# Altium schematic symbol library kmilo17pet-TI_MSP430.SchLib: 1463 symbols (part 41 of 130)
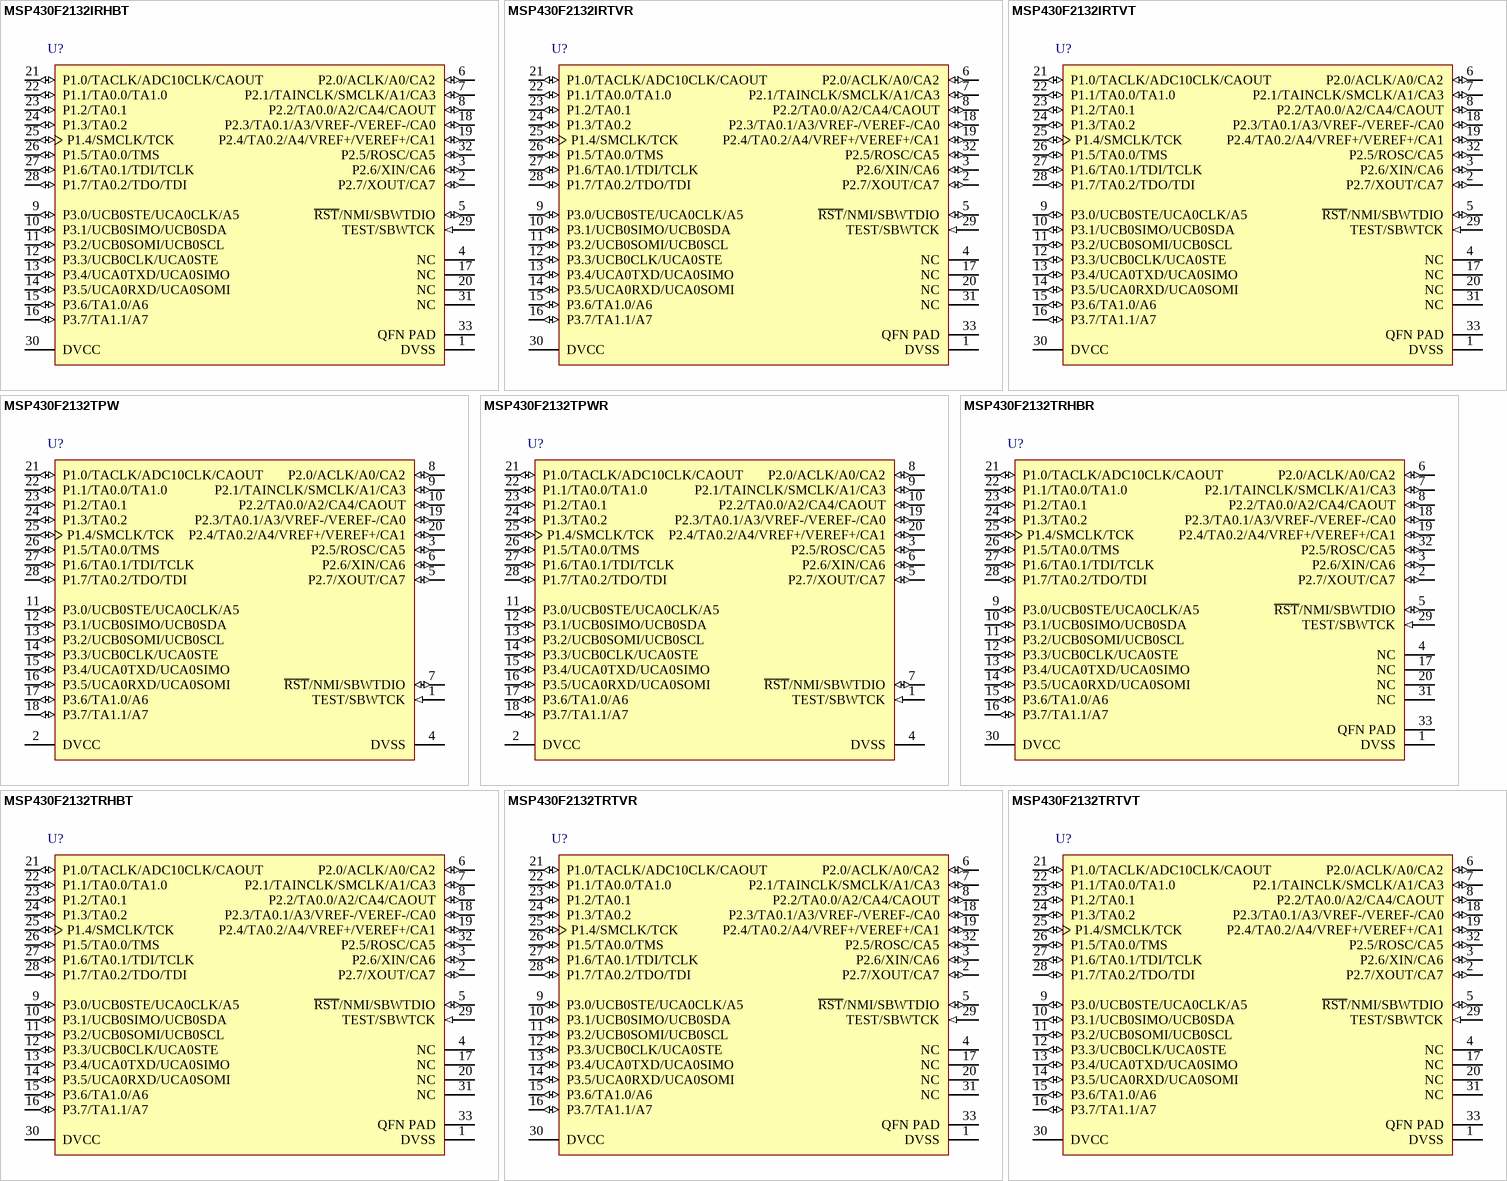
[diagram p257: symbols MSP430F2132IRHBT to MSP430F2132TRTVT]

## MSP430F2132TRHBR
designator U?
16 MHz Mixed Signal Microcontroller with 8 KB Flash, 512 B SRAM and 24 GPIOs, -40 to 105 degC, 32-pin QFN (RHB), Green (RoHS & no Sb/Br); Manufacturer: Texas Instruments; PartNumber: MSP430F2132TRHBR; ADC: 10-bit SAR; ADC Channels: 8; Brown Out Reset: Yes; Frequency(MHz): 16; GPIO: 24; SRAM(B): 512; SubFamily: 2 Series, Extended Temp; Timers - 16-bit: 2; USCI_A (UART/LIN/IrDA/SPI): 1; DatasheetVersion: SLAS578J; PackageVersion: 4204326/D; PackageReference: RHB32-3450X3450TP; PackageDescription: 32-Pin Plastic Flat Pack, Body 5 x 5 mm, Pitch 0.5 mm; Supplier 1: Digi-Key; Supplier Part Number 1: 296-23369-2-ND; Supplier 2: Digi-Key; Supplier Part Number 2: 296-23369-1-ND; Supplier 3: Digi-Key; Supplier Part Number 3: 296-23369-6-ND; Supplier 4: Mouser; Supplier Part Number 4: 595-MSP430F2132TPWR; Comparators: Yes; Eco-Plan: Green (RoHS & no Sb/Br); Flash(KB): 8; Temp Sensor: Yes; USCI_B (I2C & SPI): 1; Watchdog: Yes; Mounting Technology: Surface Mount; Code_JEDEC: MO-220; ComponentLink1Description: Manufacturer URL; ComponentLink1URL: http://www.ti.com/; ComponentLink2Description: Datasheet; ComponentLink2URL: http://www.ti.com/general/docs/lit/getliterature.tsp?genericPartNumber=MSP430F2132&fileType=pdf; ComponentLink3Description: Package Specification; ComponentLink3URL: http://www.ti.com/lit/ml/mpqf130c/mpqf130c.pdf
footprint TI-RHB32-3450X3450TP_N (QFN, 32-Leads, Body 5x5mm, Pitch 0.5mm, Thermal Pad 3.45x3.45mm, IPC Medium Density)
pins: 1 DVSS (power) "Digital supply voltage", 2 P2.7/XOUT/CA7 (io), 3 P2.6/XIN/CA6 (io), 4 NC "Not connected internally. Connection to VSS is recommended.", 5 ~{RST}/NMI/SBWTDIO (io), 6 P2.0/ACLK/A0/CA2 (io), 7 P2.1/TAINCLK/SMCLK/A1/CA3 (io), 8 P2.2/TA0.0/A2/CA4/CAOUT (io), 9 P3.0/UCB0STE/UCA0CLK/A5 (io), 10 P3.1/UCB0SIMO/UCB0SDA (io), 11 P3.2/UCB0SOMI/UCB0SCL (io), 12 P3.3/UCB0CLK/UCA0STE (io), 13 P3.4/UCA0TXD/UCA0SIMO (io), 14 P3.5/UCA0RXD/UCA0SOMI (io), 15 P3.6/TA1.0/A6 (io), 16 P3.7/TA1.1/A7 (io), 17 NC "Not connected internally. Connection to VSS is recommended.", 18 P2.3/TA0.1/A3/VREF-/VEREF-/CA0 (io), 19 P2.4/TA0.2/A4/VREF+/VEREF+/CA1 (io), 20 NC "Not connected internally. Connection to VSS is recommended.", 21 P1.0/TACLK/ADC10CLK/CAOUT (io), 22 P1.1/TA0.0/TA1.0 (io), 23 P1.2/TA0.1 (io), 24 P1.3/TA0.2 (io), 25 P1.4/SMCLK/TCK (io), 26 P1.5/TA0.0/TMS (io), 27 P1.6/TA0.1/TDI/TCLK (io), 28 P1.7/TA0.2/TDO/TDI (io), 29 TEST/SBWTCK (in), 30 DVCC (power) "Digital supply voltage", 31 NC "Not connected internally. Connection to VSS is recommended.", 32 P2.5/ROSC/CA5 (io), 33 QFN PAD (power) "QFN package.pad (RHB, RTV packages). Connection to DVSS is recommended."

## MSP430F2132TRHBT
designator U?
16 MHz Mixed Signal Microcontroller with 8 KB Flash, 512 B SRAM and 24 GPIOs, -40 to 105 degC, 32-pin QFN (RHB), Green (RoHS & no Sb/Br); Manufacturer: Texas Instruments; PartNumber: MSP430F2132TRHBT; ADC: 10-bit SAR; ADC Channels: 8; Brown Out Reset: Yes; Frequency(MHz): 16; GPIO: 24; SRAM(B): 512; SubFamily: 2 Series, Extended Temp; Timers - 16-bit: 2; USCI_A (UART/LIN/IrDA/SPI): 1; DatasheetVersion: SLAS578J; PackageVersion: 4204326/D; PackageReference: RHB32-3450X3450TP; PackageDescription: 32-Pin Plastic Flat Pack, Body 5 x 5 mm, Pitch 0.5 mm; Supplier 1: Digi-Key; Supplier Part Number 1: 296-23370-2-ND; Supplier 2: Digi-Key; Supplier Part Number 2: 296-23370-1-ND; Supplier 3: Digi-Key; Supplier Part Number 3: 296-23370-6-ND; Supplier 4: Newark; Supplier Part Number 4: 96M3659; Supplier 5: Mouser; Supplier Part Number 5: 595-MSP430F2132TRHBR; Comparators: Yes; Eco-Plan: Green (RoHS & no Sb/Br); Flash(KB): 8; Temp Sensor: Yes; USCI_B (I2C & SPI): 1; Watchdog: Yes; Mounting Technology: Surface Mount; Code_JEDEC: MO-220; ComponentLink1Description: Manufacturer URL; ComponentLink1URL: http://www.ti.com/; ComponentLink2Description: Datasheet; ComponentLink2URL: http://www.ti.com/general/docs/lit/getliterature.tsp?genericPartNumber=MSP430F2132&fileType=pdf; ComponentLink3Description: Package Specification; ComponentLink3URL: http://www.ti.com/lit/ml/mpqf130c/mpqf130c.pdf
footprint TI-RHB32-3450X3450TP_N (QFN, 32-Leads, Body 5x5mm, Pitch 0.5mm, Thermal Pad 3.45x3.45mm, IPC Medium Density)
pins: 1 DVSS (power) "Digital supply voltage", 2 P2.7/XOUT/CA7 (io), 3 P2.6/XIN/CA6 (io), 4 NC "Not connected internally. Connection to VSS is recommended.", 5 ~{RST}/NMI/SBWTDIO (io), 6 P2.0/ACLK/A0/CA2 (io), 7 P2.1/TAINCLK/SMCLK/A1/CA3 (io), 8 P2.2/TA0.0/A2/CA4/CAOUT (io), 9 P3.0/UCB0STE/UCA0CLK/A5 (io), 10 P3.1/UCB0SIMO/UCB0SDA (io), 11 P3.2/UCB0SOMI/UCB0SCL (io), 12 P3.3/UCB0CLK/UCA0STE (io), 13 P3.4/UCA0TXD/UCA0SIMO (io), 14 P3.5/UCA0RXD/UCA0SOMI (io), 15 P3.6/TA1.0/A6 (io), 16 P3.7/TA1.1/A7 (io), 17 NC "Not connected internally. Connection to VSS is recommended.", 18 P2.3/TA0.1/A3/VREF-/VEREF-/CA0 (io), 19 P2.4/TA0.2/A4/VREF+/VEREF+/CA1 (io), 20 NC "Not connected internally. Connection to VSS is recommended.", 21 P1.0/TACLK/ADC10CLK/CAOUT (io), 22 P1.1/TA0.0/TA1.0 (io), 23 P1.2/TA0.1 (io), 24 P1.3/TA0.2 (io), 25 P1.4/SMCLK/TCK (io), 26 P1.5/TA0.0/TMS (io), 27 P1.6/TA0.1/TDI/TCLK (io), 28 P1.7/TA0.2/TDO/TDI (io), 29 TEST/SBWTCK (in), 30 DVCC (power) "Digital supply voltage", 31 NC "Not connected internally. Connection to VSS is recommended.", 32 P2.5/ROSC/CA5 (io), 33 QFN PAD (power) "QFN package.pad (RHB, RTV packages). Connection to DVSS is recommended."

## MSP430F2132TRTVR
designator U?
16 MHz Mixed Signal Microcontroller with 8 KB Flash, 512 B SRAM and 24 GPIOs, -40 to 105 degC, 32-pin QFN (RTV), Green (RoHS & no Sb/Br); Manufacturer: Texas Instruments; PartNumber: MSP430F2132TRTVR; ADC: 10-bit SAR; ADC Channels: 8; Brown Out Reset: Yes; Frequency(MHz): 16; GPIO: 24; SRAM(B): 512; SubFamily: 2 Series, Extended Temp; Timers - 16-bit: 2; USCI_A (UART/LIN/IrDA/SPI): 1; DatasheetVersion: SLAS578J; PackageReference: RTV32-3450X3450TP; PackageDescription: 32-Pin Plastic Flat Pack, Body 5.00 x 5.00 mm, Pitch 0.50 mm; Supplier 1: Digi-Key; Supplier Part Number 1: 296-26203-2-ND; Supplier 2: Digi-Key; Supplier Part Number 2: 296-26203-1-ND; Supplier 3: Digi-Key; Supplier Part Number 3: 296-26203-6-ND; Supplier 4: Farnell; Supplier Part Number 4: 1649418; Supplier 5: Newark; Supplier Part Number 5: 96M3660; Supplier 6: Mouser; Supplier Part Number 6: 595-MSP430F2132TRHBT; Comparators: Yes; Eco-Plan: Green (RoHS & no Sb/Br); Flash(KB): 8; Temp Sensor: Yes; USCI_B (I2C & SPI): 1; Watchdog: Yes; Mounting Technology: Surface Mount; Code_JEDEC: MO-220; ComponentLink1Description: Manufacturer URL; ComponentLink1URL: http://www.ti.com/; ComponentLink2Description: Datasheet; ComponentLink2URL: http://www.ti.com/general/docs/lit/getliterature.tsp?genericPartNumber=MSP430F2132&fileType=pdf; ComponentLink3Description: Package Specification; ComponentLink3URL: http://www.ti.com/litv/pdf/mpqf166b
footprint TI-RTV32-3450X3450TP_N (QFN, 32-Leads, Body 5x5mm, Pitch 0.5mm, Thermal Pad 3.45x3.45mm, IPC Medium Density)
pins: 1 DVSS (power) "Digital supply voltage", 2 P2.7/XOUT/CA7 (io), 3 P2.6/XIN/CA6 (io), 4 NC "Not connected internally. Connection to VSS is recommended.", 5 ~{RST}/NMI/SBWTDIO (io), 6 P2.0/ACLK/A0/CA2 (io), 7 P2.1/TAINCLK/SMCLK/A1/CA3 (io), 8 P2.2/TA0.0/A2/CA4/CAOUT (io), 9 P3.0/UCB0STE/UCA0CLK/A5 (io), 10 P3.1/UCB0SIMO/UCB0SDA (io), 11 P3.2/UCB0SOMI/UCB0SCL (io), 12 P3.3/UCB0CLK/UCA0STE (io), 13 P3.4/UCA0TXD/UCA0SIMO (io), 14 P3.5/UCA0RXD/UCA0SOMI (io), 15 P3.6/TA1.0/A6 (io), 16 P3.7/TA1.1/A7 (io), 17 NC "Not connected internally. Connection to VSS is recommended.", 18 P2.3/TA0.1/A3/VREF-/VEREF-/CA0 (io), 19 P2.4/TA0.2/A4/VREF+/VEREF+/CA1 (io), 20 NC "Not connected internally. Connection to VSS is recommended.", 21 P1.0/TACLK/ADC10CLK/CAOUT (io), 22 P1.1/TA0.0/TA1.0 (io), 23 P1.2/TA0.1 (io), 24 P1.3/TA0.2 (io), 25 P1.4/SMCLK/TCK (io), 26 P1.5/TA0.0/TMS (io), 27 P1.6/TA0.1/TDI/TCLK (io), 28 P1.7/TA0.2/TDO/TDI (io), 29 TEST/SBWTCK (in), 30 DVCC (power) "Digital supply voltage", 31 NC "Not connected internally. Connection to VSS is recommended.", 32 P2.5/ROSC/CA5 (io), 33 QFN PAD (power) "QFN package.pad (RHB, RTV packages). Connection to DVSS is recommended."

## MSP430F2132TRTVT
designator U?
16 MHz Mixed Signal Microcontroller with 8 KB Flash, 512 B SRAM and 24 GPIOs, -40 to 105 degC, 32-pin QFN (RTV), Green (RoHS & no Sb/Br); Manufacturer: Texas Instruments; PartNumber: MSP430F2132TRTVT; ADC: 10-bit SAR; ADC Channels: 8; Brown Out Reset: Yes; Frequency(MHz): 16; GPIO: 24; SRAM(B): 512; SubFamily: 2 Series, Extended Temp; Timers - 16-bit: 2; USCI_A (UART/LIN/IrDA/SPI): 1; DatasheetVersion: SLAS578J; PackageReference: RTV32-3450X3450TP; PackageDescription: 32-Pin Plastic Flat Pack, Body 5.00 x 5.00 mm, Pitch 0.50 mm; Supplier 1: Digi-Key; Supplier Part Number 1: MSP430F2132TRTVR-ND; Supplier 2: Mouser; Supplier Part Number 2: 595-MSP430F2132TRTVR; Comparators: Yes; Eco-Plan: Green (RoHS & no Sb/Br); Flash(KB): 8; Temp Sensor: Yes; USCI_B (I2C & SPI): 1; Watchdog: Yes; Mounting Technology: Surface Mount; Code_JEDEC: MO-220; ComponentLink1Description: Manufacturer URL; ComponentLink1URL: http://www.ti.com/; ComponentLink2Description: Datasheet; ComponentLink2URL: http://www.ti.com/general/docs/lit/getliterature.tsp?genericPartNumber=MSP430F2132&fileType=pdf; ComponentLink3Description: Package Specification; ComponentLink3URL: http://www.ti.com/litv/pdf/mpqf166b
footprint TI-RTV32-3450X3450TP_N (QFN, 32-Leads, Body 5x5mm, Pitch 0.5mm, Thermal Pad 3.45x3.45mm, IPC Medium Density)
pins: 1 DVSS (power) "Digital supply voltage", 2 P2.7/XOUT/CA7 (io), 3 P2.6/XIN/CA6 (io), 4 NC "Not connected internally. Connection to VSS is recommended.", 5 ~{RST}/NMI/SBWTDIO (io), 6 P2.0/ACLK/A0/CA2 (io), 7 P2.1/TAINCLK/SMCLK/A1/CA3 (io), 8 P2.2/TA0.0/A2/CA4/CAOUT (io), 9 P3.0/UCB0STE/UCA0CLK/A5 (io), 10 P3.1/UCB0SIMO/UCB0SDA (io), 11 P3.2/UCB0SOMI/UCB0SCL (io), 12 P3.3/UCB0CLK/UCA0STE (io), 13 P3.4/UCA0TXD/UCA0SIMO (io), 14 P3.5/UCA0RXD/UCA0SOMI (io), 15 P3.6/TA1.0/A6 (io), 16 P3.7/TA1.1/A7 (io), 17 NC "Not connected internally. Connection to VSS is recommended.", 18 P2.3/TA0.1/A3/VREF-/VEREF-/CA0 (io), 19 P2.4/TA0.2/A4/VREF+/VEREF+/CA1 (io), 20 NC "Not connected internally. Connection to VSS is recommended.", 21 P1.0/TACLK/ADC10CLK/CAOUT (io), 22 P1.1/TA0.0/TA1.0 (io), 23 P1.2/TA0.1 (io), 24 P1.3/TA0.2 (io), 25 P1.4/SMCLK/TCK (io), 26 P1.5/TA0.0/TMS (io), 27 P1.6/TA0.1/TDI/TCLK (io), 28 P1.7/TA0.2/TDO/TDI (io), 29 TEST/SBWTCK (in), 30 DVCC (power) "Digital supply voltage", 31 NC "Not connected internally. Connection to VSS is recommended.", 32 P2.5/ROSC/CA5 (io), 33 QFN PAD (power) "QFN package.pad (RHB, RTV packages). Connection to DVSS is recommended."

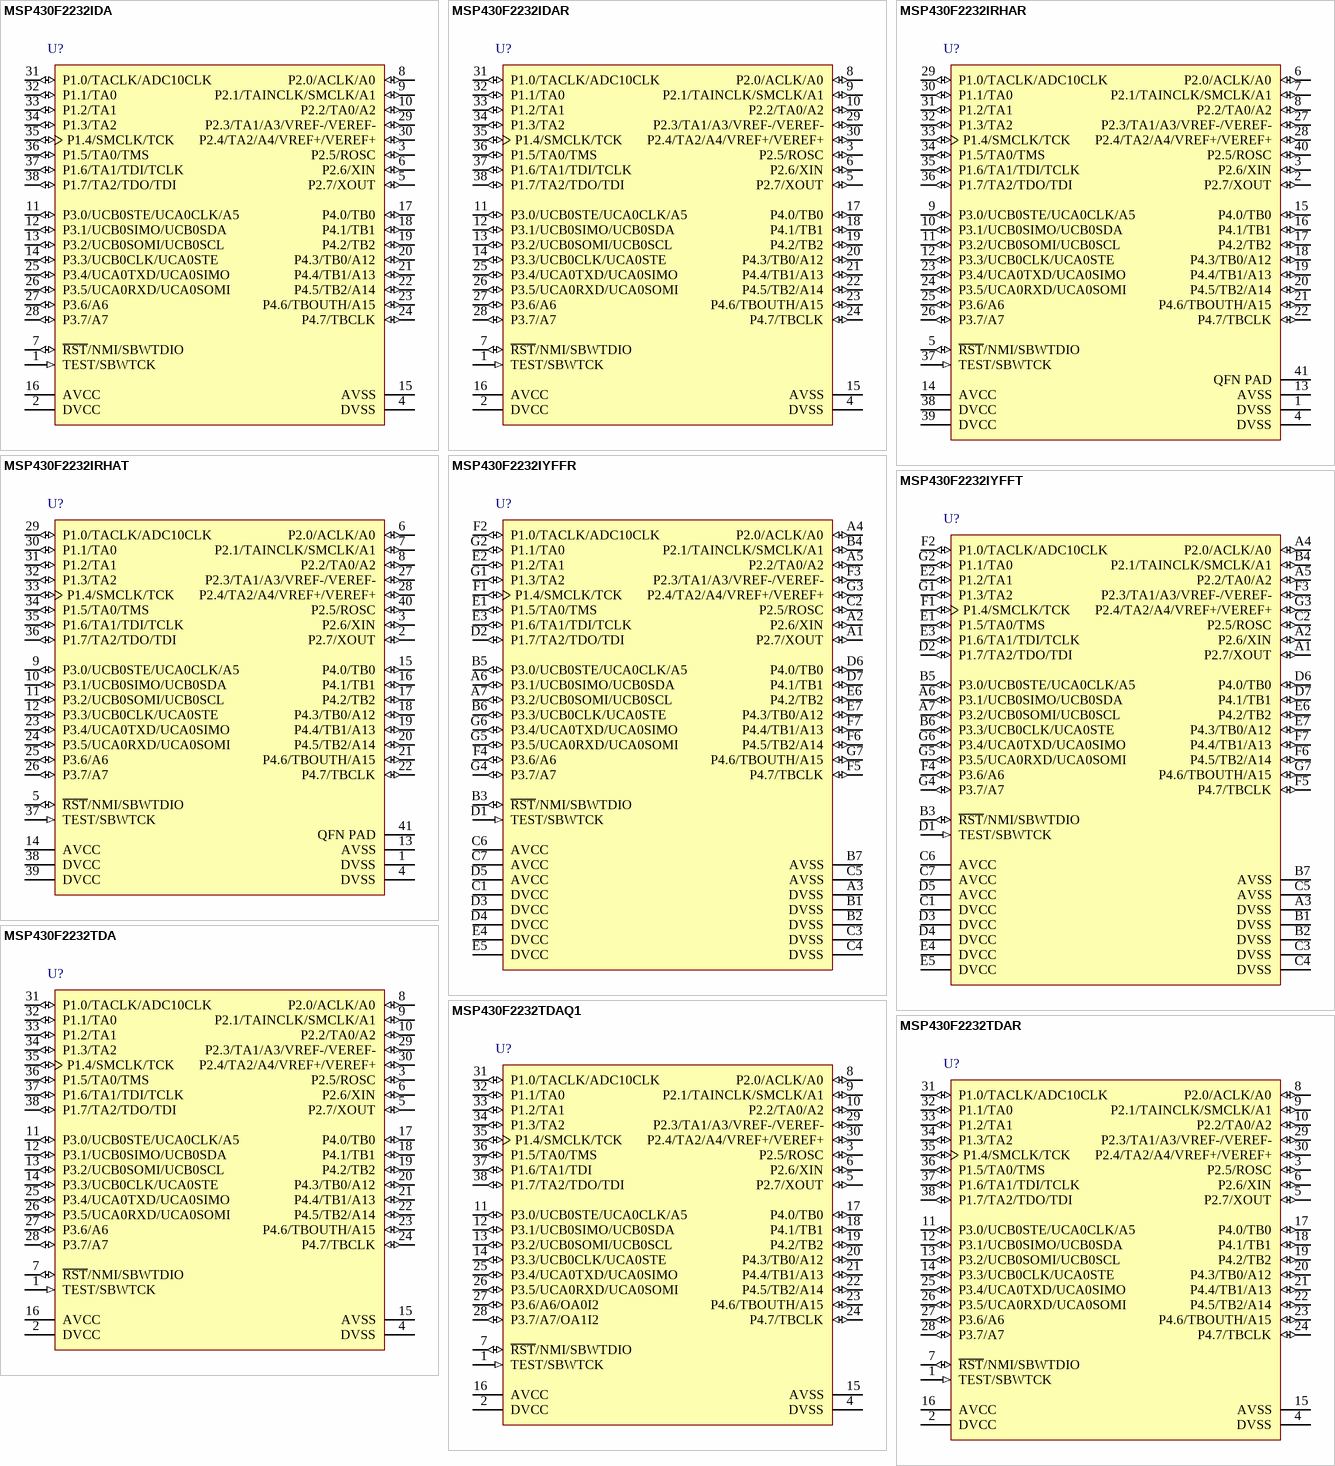
[diagram p59: symbols MSP430F2232IDA to MSP430F2232TDAR]

## MSP430F2232IDA
designator U?
16 MHz Mixed Signal Microcontroller with 8 KB Flash, 512 B SRAM and 32 GPIOs, -40 to 85 degC, 38-pin SOP (DA), Green (RoHS & no Sb/Br); Manufacturer: Texas Instruments; PartNumber: MSP430F2232IDA; ADC: 10-bit SAR; ADC Channels: 12; Brown Out Reset: Yes; Flash(KB): 8; Frequency(MHz): 16; GPIO: 32; SRAM(B): 512; SubFamily: 2 Series, Extended Temp; Timers - 16-bit: 2; USCI_A (UART/LIN/IrDA/SPI): 1; DatasheetVersion: SLAS504G; PackageVersion: 4040066/F; PackageReference: DA38; PackageDescription: 38-Pin Plastic Small-Outline Package, Body 6.10 x 12.50 mm, Pitch 0.65 mm; Supplier 1: Digi-Key; Supplier Part Number 1: MSP430F2132TRTVT-ND; Supplier 2: Mouser; Supplier Part Number 2: 595-MSP430F2132TRTVT; Eco-Plan: Green (RoHS & no Sb/Br); USCI_B (I2C & SPI): 1; Watchdog: Yes; Mounting Technology: Surface Mount; Code_JEDEC: MO-153; ComponentLink1Description: Manufacturer URL; ComponentLink1URL: http://www.ti.com/; ComponentLink2Description: Datasheet; ComponentLink2URL: http://www.ti.com/general/docs/lit/getliterature.tsp?genericPartNumber=MSP430F2232&fileType=pdf; ComponentLink3Description: Package Specification; ComponentLink3URL: http://www.ti.com/lit/ml/mtss002e/mtss002e.pdf
footprint TI-DA38_N (SOP, 38-Leads, Body 12.5x6.1mm, Pitch 0.65mm, IPC Medium Density)
pins: 1 TEST/SBWTCK (in), 2 DVCC (power) "Digital supply voltage", 3 P2.5/ROSC (io), 4 DVSS (power) "Digital ground reference", 5 P2.7/XOUT (io), 6 P2.6/XIN (io), 7 ~{RST}/NMI/SBWTDIO (io), 8 P2.0/ACLK/A0 (io), 9 P2.1/TAINCLK/SMCLK/A1 (io), 10 P2.2/TA0/A2 (io), 11 P3.0/UCB0STE/UCA0CLK/A5 (io), 12 P3.1/UCB0SIMO/UCB0SDA (io), 13 P3.2/UCB0SOMI/UCB0SCL (io), 14 P3.3/UCB0CLK/UCA0STE (io), 15 AVSS (power) "Analog ground reference", 16 AVCC (power) "Analog supply voltage", 17 P4.0/TB0 (io), 18 P4.1/TB1 (io), 19 P4.2/TB2 (io), 20 P4.3/TB0/A12 (io), 21 P4.4/TB1/A13 (io), 22 P4.5/TB2/A14 (io), 23 P4.6/TBOUTH/A15 (io), 24 P4.7/TBCLK (io), 25 P3.4/UCA0TXD/UCA0SIMO (io), 26 P3.5/UCA0RXD/UCA0SOMI (io), 27 P3.6/A6 (io), 28 P3.7/A7 (io), 29 P2.3/TA1/A3/VREF-/VEREF- (io), 30 P2.4/TA2/A4/VREF+/VEREF+ (io), 31 P1.0/TACLK/ADC10CLK (io), 32 P1.1/TA0 (io), 33 P1.2/TA1 (io), 34 P1.3/TA2 (io), 35 P1.4/SMCLK/TCK (io), 36 P1.5/TA0/TMS (io), 37 P1.6/TA1/TDI/TCLK (io), 38 P1.7/TA2/TDO/TDI (io)

## MSP430F2232IDAR
designator U?
16 MHz Mixed Signal Microcontroller with 8 KB Flash, 512 B SRAM and 32 GPIOs, -40 to 85 degC, 38-pin SOP (DA), Green (RoHS & no Sb/Br); Manufacturer: Texas Instruments; PartNumber: MSP430F2232IDAR; ADC: 10-bit SAR; ADC Channels: 12; Brown Out Reset: Yes; Flash(KB): 8; Frequency(MHz): 16; GPIO: 32; SRAM(B): 512; SubFamily: 2 Series, Extended Temp; Timers - 16-bit: 2; USCI_A (UART/LIN/IrDA/SPI): 1; DatasheetVersion: SLAS504G; PackageVersion: 4040066/F; PackageReference: DA38; PackageDescription: 38-Pin Plastic Small-Outline Package, Body 6.10 x 12.50 mm, Pitch 0.65 mm; Supplier 1: Digi-Key; Supplier Part Number 1: 296-26204-5-ND; Supplier 2: Farnell; Supplier Part Number 2: 1610178; Supplier 3: Newark; Supplier Part Number 3: 28M6312; Supplier 4: Mouser; Supplier Part Number 4: 595-MSP430F2232IDA; Eco-Plan: Green (RoHS & no Sb/Br); USCI_B (I2C & SPI): 1; Watchdog: Yes; Mounting Technology: Surface Mount; Code_JEDEC: MO-153; ComponentLink1Description: Manufacturer URL; ComponentLink1URL: http://www.ti.com/; ComponentLink2Description: Datasheet; ComponentLink2URL: http://www.ti.com/general/docs/lit/getliterature.tsp?genericPartNumber=MSP430F2232&fileType=pdf; ComponentLink3Description: Package Specification; ComponentLink3URL: http://www.ti.com/lit/ml/mtss002e/mtss002e.pdf
footprint TI-DA38_N (SOP, 38-Leads, Body 12.5x6.1mm, Pitch 0.65mm, IPC Medium Density)
pins: 1 TEST/SBWTCK (in), 2 DVCC (power) "Digital supply voltage", 3 P2.5/ROSC (io), 4 DVSS (power) "Digital ground reference", 5 P2.7/XOUT (io), 6 P2.6/XIN (io), 7 ~{RST}/NMI/SBWTDIO (io), 8 P2.0/ACLK/A0 (io), 9 P2.1/TAINCLK/SMCLK/A1 (io), 10 P2.2/TA0/A2 (io), 11 P3.0/UCB0STE/UCA0CLK/A5 (io), 12 P3.1/UCB0SIMO/UCB0SDA (io), 13 P3.2/UCB0SOMI/UCB0SCL (io), 14 P3.3/UCB0CLK/UCA0STE (io), 15 AVSS (power) "Analog ground reference", 16 AVCC (power) "Analog supply voltage", 17 P4.0/TB0 (io), 18 P4.1/TB1 (io), 19 P4.2/TB2 (io), 20 P4.3/TB0/A12 (io), 21 P4.4/TB1/A13 (io), 22 P4.5/TB2/A14 (io), 23 P4.6/TBOUTH/A15 (io), 24 P4.7/TBCLK (io), 25 P3.4/UCA0TXD/UCA0SIMO (io), 26 P3.5/UCA0RXD/UCA0SOMI (io), 27 P3.6/A6 (io), 28 P3.7/A7 (io), 29 P2.3/TA1/A3/VREF-/VEREF- (io), 30 P2.4/TA2/A4/VREF+/VEREF+ (io), 31 P1.0/TACLK/ADC10CLK (io), 32 P1.1/TA0 (io), 33 P1.2/TA1 (io), 34 P1.3/TA2 (io), 35 P1.4/SMCLK/TCK (io), 36 P1.5/TA0/TMS (io), 37 P1.6/TA1/TDI/TCLK (io), 38 P1.7/TA2/TDO/TDI (io)

## MSP430F2232IRHAR
designator U?
16 MHz Mixed Signal Microcontroller with 8 KB Flash, 512 B SRAM and 32 GPIOs, -40 to 85 degC, 40-pin QFN (RHA), Green (RoHS & no Sb/Br); Manufacturer: Texas Instruments; PartNumber: MSP430F2232IRHAR; ADC: 10-bit SAR; ADC Channels: 12; Brown Out Reset: Yes; Flash(KB): 8; Frequency(MHz): 16; GPIO: 32; SRAM(B): 512; SubFamily: 2 Series, Extended Temp; Timers - 16-bit: 2; USCI_A (UART/LIN/IrDA/SPI): 1; DatasheetVersion: SLAS504G; PackageVersion: 4204276/E; PackageReference: RHA40-4150X4150TP; PackageDescription: 40-Pin Plastic Flat Pack, Body 6 x 6 mm, Pitch 0.5 mm; Supplier 1: Digi-Key; Supplier Part Number 1: 296-21444-2-ND; Supplier 2: Digi-Key; Supplier Part Number 2: 296-21444-1-ND; Supplier 3: Digi-Key; Supplier Part Number 3: 296-21444-6-ND; Supplier 4: Newark; Supplier Part Number 4: 28M6313; Supplier 5: Mouser; Supplier Part Number 5: 595-MSP430F2232IDAR; Eco-Plan: Green (RoHS & no Sb/Br); USCI_B (I2C & SPI): 1; Watchdog: Yes; Mounting Technology: Surface Mount; Code_JEDEC: MO-220; ComponentLink1Description: Manufacturer URL; ComponentLink1URL: http://www.ti.com/; ComponentLink2Description: Datasheet; ComponentLink2URL: http://www.ti.com/general/docs/lit/getliterature.tsp?genericPartNumber=MSP430F2232&fileType=pdf; ComponentLink3Description: Package Specification; ComponentLink3URL: http://www.ti.com/litv/pdf/mpqf135c
footprint TI-RHA40-4150X4150TP_N (QFN, 40-Leads, Body 6x6mm, Pitch 0.5mm, Thermal Pad 4.15x4.15mm, IPC Medium Density)
pins: 1 DVSS (power) "Digital ground reference", 2 P2.7/XOUT (io), 3 P2.6/XIN (io), 4 DVSS (power) "Digital ground reference", 5 ~{RST}/NMI/SBWTDIO (io), 6 P2.0/ACLK/A0 (io), 7 P2.1/TAINCLK/SMCLK/A1 (io), 8 P2.2/TA0/A2 (io), 9 P3.0/UCB0STE/UCA0CLK/A5 (io), 10 P3.1/UCB0SIMO/UCB0SDA (io), 11 P3.2/UCB0SOMI/UCB0SCL (io), 12 P3.3/UCB0CLK/UCA0STE (io), 13 AVSS (power) "Analog ground reference", 14 AVCC (power) "Analog supply voltage", 15 P4.0/TB0 (io), 16 P4.1/TB1 (io), 17 P4.2/TB2 (io), 18 P4.3/TB0/A12 (io), 19 P4.4/TB1/A13 (io), 20 P4.5/TB2/A14 (io), 21 P4.6/TBOUTH/A15 (io), 22 P4.7/TBCLK (io), 23 P3.4/UCA0TXD/UCA0SIMO (io), 24 P3.5/UCA0RXD/UCA0SOMI (io), 25 P3.6/A6 (io), 26 P3.7/A7 (io), 27 P2.3/TA1/A3/VREF-/VEREF- (io), 28 P2.4/TA2/A4/VREF+/VEREF+ (io), 29 P1.0/TACLK/ADC10CLK (io), 30 P1.1/TA0 (io), 31 P1.2/TA1 (io), 32 P1.3/TA2 (io), 33 P1.4/SMCLK/TCK (io), 34 P1.5/TA0/TMS (io), 35 P1.6/TA1/TDI/TCLK (io), 36 P1.7/TA2/TDO/TDI (io), 37 TEST/SBWTCK (in), 38 DVCC (power) "Digital supply voltage", 39 DVCC (power) "Digital supply voltage", 40 P2.5/ROSC (io), 41 QFN PAD (power) "QFN package pad; connection to DVSS recommended"

## MSP430F2232IRHAT
designator U?
16 MHz Mixed Signal Microcontroller with 8 KB Flash, 512 B SRAM and 32 GPIOs, -40 to 85 degC, 40-pin QFN (RHA), Green (RoHS & no Sb/Br); Manufacturer: Texas Instruments; PartNumber: MSP430F2232IRHAT; ADC: 10-bit SAR; ADC Channels: 12; Brown Out Reset: Yes; Flash(KB): 8; Frequency(MHz): 16; GPIO: 32; SRAM(B): 512; SubFamily: 2 Series, Extended Temp; Timers - 16-bit: 2; USCI_A (UART/LIN/IrDA/SPI): 1; DatasheetVersion: SLAS504G; PackageVersion: 4204276/E; PackageReference: RHA40-4150X4150TP; PackageDescription: 40-Pin Plastic Flat Pack, Body 6 x 6 mm, Pitch 0.5 mm; Supplier 1: Digi-Key; Supplier Part Number 1: 296-26205-2-ND; Supplier 2: Digi-Key; Supplier Part Number 2: 296-26205-1-ND; Supplier 3: Digi-Key; Supplier Part Number 3: 296-26205-6-ND; Supplier 4: Newark; Supplier Part Number 4: 28M6314; Supplier 5: Mouser; Supplier Part Number 5: 595-MSP430F2232IRHAR; Eco-Plan: Green (RoHS & no Sb/Br); USCI_B (I2C & SPI): 1; Watchdog: Yes; Mounting Technology: Surface Mount; Code_JEDEC: MO-220; ComponentLink1Description: Manufacturer URL; ComponentLink1URL: http://www.ti.com/; ComponentLink2Description: Datasheet; ComponentLink2URL: http://www.ti.com/general/docs/lit/getliterature.tsp?genericPartNumber=MSP430F2232&fileType=pdf; ComponentLink3Description: Package Specification; ComponentLink3URL: http://www.ti.com/litv/pdf/mpqf135c
footprint TI-RHA40-4150X4150TP_N (QFN, 40-Leads, Body 6x6mm, Pitch 0.5mm, Thermal Pad 4.15x4.15mm, IPC Medium Density)
pins: 1 DVSS (power) "Digital ground reference", 2 P2.7/XOUT (io), 3 P2.6/XIN (io), 4 DVSS (power) "Digital ground reference", 5 ~{RST}/NMI/SBWTDIO (io), 6 P2.0/ACLK/A0 (io), 7 P2.1/TAINCLK/SMCLK/A1 (io), 8 P2.2/TA0/A2 (io), 9 P3.0/UCB0STE/UCA0CLK/A5 (io), 10 P3.1/UCB0SIMO/UCB0SDA (io), 11 P3.2/UCB0SOMI/UCB0SCL (io), 12 P3.3/UCB0CLK/UCA0STE (io), 13 AVSS (power) "Analog ground reference", 14 AVCC (power) "Analog supply voltage", 15 P4.0/TB0 (io), 16 P4.1/TB1 (io), 17 P4.2/TB2 (io), 18 P4.3/TB0/A12 (io), 19 P4.4/TB1/A13 (io), 20 P4.5/TB2/A14 (io), 21 P4.6/TBOUTH/A15 (io), 22 P4.7/TBCLK (io), 23 P3.4/UCA0TXD/UCA0SIMO (io), 24 P3.5/UCA0RXD/UCA0SOMI (io), 25 P3.6/A6 (io), 26 P3.7/A7 (io), 27 P2.3/TA1/A3/VREF-/VEREF- (io), 28 P2.4/TA2/A4/VREF+/VEREF+ (io), 29 P1.0/TACLK/ADC10CLK (io), 30 P1.1/TA0 (io), 31 P1.2/TA1 (io), 32 P1.3/TA2 (io), 33 P1.4/SMCLK/TCK (io), 34 P1.5/TA0/TMS (io), 35 P1.6/TA1/TDI/TCLK (io), 36 P1.7/TA2/TDO/TDI (io), 37 TEST/SBWTCK (in), 38 DVCC (power) "Digital supply voltage", 39 DVCC (power) "Digital supply voltage", 40 P2.5/ROSC (io), 41 QFN PAD (power) "QFN package pad; connection to DVSS recommended"

## MSP430F2232IYFFR
designator U?
16 MHz Mixed Signal Microcontroller with 8 KB Flash, 512 B SRAM and 32 GPIOs, -40 to 85 degC, 49-pin BGA (YFF), Green (RoHS & no Sb/Br); Manufacturer: Texas Instruments; PartNumber: MSP430F2232IYFFR; ADC: 10-bit SAR; ADC Channels: 12; Brown Out Reset: Yes; Flash(KB): 8; Frequency(MHz): 16; GPIO: 32; SRAM(B): 512; SubFamily: 2 Series, Extended Temp; Timers - 16-bit: 2; USCI_A (UART/LIN/IrDA/SPI): 1; DatasheetVersion: SLAS504G; PackageVersion: 4207625-16/AJ; PackageReference: YFF49; PackageDescription: 49-Ball Silicon Grid Array, Body 3.33 x 3.49 mm, Pitch 0.4 mm; Supplier 1: Digi-Key; Supplier Part Number 1: 296-21445-2-ND; Supplier 2: Digi-Key; Supplier Part Number 2: 296-21445-1-ND; Supplier 3: Digi-Key; Supplier Part Number 3: 296-21445-6-ND; Supplier 4: Farnell; Supplier Part Number 4: 1537187; Supplier 5: Newark; Supplier Part Number 5: 28M6315; Supplier 6: Mouser; Supplier Part Number 6: 595-MSP430F2232IRHAT; Eco-Plan: Green (RoHS & no Sb/Br); USCI_B (I2C & SPI): 1; Watchdog: Yes; Mounting Technology: Surface Mount; ComponentLink1Description: Manufacturer URL; ComponentLink1URL: http://www.ti.com/; ComponentLink2Description: Datasheet; ComponentLink2URL: http://www.ti.com/general/docs/lit/getliterature.tsp?genericPartNumber=MSP430F2232&fileType=pdf; ComponentLink3Description: Package Specification; ComponentLink3URL: http://www.ti.com/lit/ds/symlink/msp430f2232.pdf
footprint TI-YFF49-3330X3490DE (BGA, 49-Balls, Body 3.49x3.33mm, Pitch 0.4mm)
pins: A1 P2.7/XOUT (io), A2 P2.6/XIN (io), A3 DVSS (power) "Digital ground reference", A4 P2.0/ACLK/A0 (io), A5 P2.2/TA0/A2 (io), A6 P3.1/UCB0SIMO/UCB0SDA (io), A7 P3.2/UCB0SOMI/UCB0SCL (io), B1 DVSS (power) "Digital ground reference", B2 DVSS (power) "Digital ground reference", B3 ~{RST}/NMI/SBWTDIO (io), B4 P2.1/TAINCLK/SMCLK/A1 (io), B5 P3.0/UCB0STE/UCA0CLK/A5 (io), B6 P3.3/UCB0CLK/UCA0STE (io), B7 AVSS (power) "Analog ground reference", C1 DVCC (power) "Digital supply voltage", C2 P2.5/ROSC (io), C3 DVSS (power) "Digital ground reference", C4 DVSS (power) "Digital ground reference", C5 AVSS (power) "Analog ground reference", C6 AVCC (power) "Analog supply voltage", C7 AVCC (power) "Analog supply voltage", D1 TEST/SBWTCK (in), D2 P1.7/TA2/TDO/TDI (io), D3 DVCC (power) "Digital supply voltage", D4 DVCC (power) "Digital supply voltage", D5 AVCC (power) "Analog supply voltage", D6 P4.0/TB0 (io), D7 P4.1/TB1 (io), E1 P1.5/TA0/TMS (io), E2 P1.2/TA1 (io), E3 P1.6/TA1/TDI/TCLK (io), E4 DVCC (power) "Digital supply voltage", E5 DVCC (power) "Digital supply voltage", E6 P4.2/TB2 (io), E7 P4.3/TB0/A12 (io), F1 P1.4/SMCLK/TCK (io), F2 P1.0/TACLK/ADC10CLK (io), F3 P2.3/TA1/A3/VREF-/VEREF- (io), F4 P3.6/A6 (io), F5 P4.7/TBCLK (io), F6 P4.5/TB2/A14 (io), F7 P4.4/TB1/A13 (io), G1 P1.3/TA2 (io), G2 P1.1/TA0 (io), G3 P2.4/TA2/A4/VREF+/VEREF+ (io), G4 P3.7/A7 (io), G5 P3.5/UCA0RXD/UCA0SOMI (io), G6 P3.4/UCA0TXD/UCA0SIMO (io), G7 P4.6/TBOUTH/A15 (io)

## MSP430F2232IYFFT
designator U?
16 MHz Mixed Signal Microcontroller with 8 KB Flash, 512 B SRAM and 32 GPIOs, -40 to 85 degC, 49-pin BGA (YFF), Green (RoHS & no Sb/Br); Manufacturer: Texas Instruments; PartNumber: MSP430F2232IYFFT; ADC: 10-bit SAR; ADC Channels: 12; Brown Out Reset: Yes; Flash(KB): 8; Frequency(MHz): 16; GPIO: 32; SRAM(B): 512; SubFamily: 2 Series, Extended Temp; Timers - 16-bit: 2; USCI_A (UART/LIN/IrDA/SPI): 1; DatasheetVersion: SLAS504G; PackageVersion: 4207625-16/AJ; PackageReference: YFF49; PackageDescription: 49-Ball Silicon Grid Array, Body 3.33 x 3.49 mm, Pitch 0.4 mm; Supplier 1: Digi-Key; Supplier Part Number 1: 296-28979-2-ND; Supplier 2: Digi-Key; Supplier Part Number 2: 296-28979-1-ND; Supplier 3: Digi-Key; Supplier Part Number 3: 296-28979-6-ND; Supplier 4: Newark; Supplier Part Number 4: 94T1367; Supplier 5: Mouser; Supplier Part Number 5: 595-MSP430F2232IYFFR; Eco-Plan: Green (RoHS & no Sb/Br); USCI_B (I2C & SPI): 1; Watchdog: Yes; Mounting Technology: Surface Mount; ComponentLink1Description: Manufacturer URL; ComponentLink1URL: http://www.ti.com/; ComponentLink2Description: Datasheet; ComponentLink2URL: http://www.ti.com/general/docs/lit/getliterature.tsp?genericPartNumber=MSP430F2232&fileType=pdf; ComponentLink3Description: Package Specification; ComponentLink3URL: http://www.ti.com/lit/ds/symlink/msp430f2232.pdf
footprint TI-YFF49-3330X3490DE (BGA, 49-Balls, Body 3.49x3.33mm, Pitch 0.4mm)
pins: A1 P2.7/XOUT (io), A2 P2.6/XIN (io), A3 DVSS (power) "Digital ground reference", A4 P2.0/ACLK/A0 (io), A5 P2.2/TA0/A2 (io), A6 P3.1/UCB0SIMO/UCB0SDA (io), A7 P3.2/UCB0SOMI/UCB0SCL (io), B1 DVSS (power) "Digital ground reference", B2 DVSS (power) "Digital ground reference", B3 ~{RST}/NMI/SBWTDIO (io), B4 P2.1/TAINCLK/SMCLK/A1 (io), B5 P3.0/UCB0STE/UCA0CLK/A5 (io), B6 P3.3/UCB0CLK/UCA0STE (io), B7 AVSS (power) "Analog ground reference", C1 DVCC (power) "Digital supply voltage", C2 P2.5/ROSC (io), C3 DVSS (power) "Digital ground reference", C4 DVSS (power) "Digital ground reference", C5 AVSS (power) "Analog ground reference", C6 AVCC (power) "Analog supply voltage", C7 AVCC (power) "Analog supply voltage", D1 TEST/SBWTCK (in), D2 P1.7/TA2/TDO/TDI (io), D3 DVCC (power) "Digital supply voltage", D4 DVCC (power) "Digital supply voltage", D5 AVCC (power) "Analog supply voltage", D6 P4.0/TB0 (io), D7 P4.1/TB1 (io), E1 P1.5/TA0/TMS (io), E2 P1.2/TA1 (io), E3 P1.6/TA1/TDI/TCLK (io), E4 DVCC (power) "Digital supply voltage", E5 DVCC (power) "Digital supply voltage", E6 P4.2/TB2 (io), E7 P4.3/TB0/A12 (io), F1 P1.4/SMCLK/TCK (io), F2 P1.0/TACLK/ADC10CLK (io), F3 P2.3/TA1/A3/VREF-/VEREF- (io), F4 P3.6/A6 (io), F5 P4.7/TBCLK (io), F6 P4.5/TB2/A14 (io), F7 P4.4/TB1/A13 (io), G1 P1.3/TA2 (io), G2 P1.1/TA0 (io), G3 P2.4/TA2/A4/VREF+/VEREF+ (io), G4 P3.7/A7 (io), G5 P3.5/UCA0RXD/UCA0SOMI (io), G6 P3.4/UCA0TXD/UCA0SIMO (io), G7 P4.6/TBOUTH/A15 (io)

## MSP430F2232TDA
designator U?
16 MHz Mixed Signal Microcontroller with 8 KB Flash, 512 B SRAM and 32 GPIOs, -40 to 105 degC, 38-pin SOP (DA), Green (RoHS & no Sb/Br); Manufacturer: Texas Instruments; PartNumber: MSP430F2232TDA; ADC: 10-bit SAR; ADC Channels: 12; Brown Out Reset: Yes; Flash(KB): 8; Frequency(MHz): 16; GPIO: 32; SRAM(B): 512; SubFamily: 2 Series, Extended Temp; Timers - 16-bit: 2; USCI_A (UART/LIN/IrDA/SPI): 1; DatasheetVersion: SLAS504G; PackageVersion: 4040066/F; PackageReference: DA38; PackageDescription: 38-Pin Plastic Small-Outline Package, Body 6.10 x 12.50 mm, Pitch 0.65 mm; Supplier 1: Newark; Supplier Part Number 1: 47W6736; Supplier 2: Mouser; Supplier Part Number 2: 595-MSP430F2232IYFFT; Eco-Plan: Green (RoHS & no Sb/Br); USCI_B (I2C & SPI): 1; Watchdog: Yes; Mounting Technology: Surface Mount; Code_JEDEC: MO-153; ComponentLink1Description: Manufacturer URL; ComponentLink1URL: http://www.ti.com/; ComponentLink2Description: Datasheet; ComponentLink2URL: http://www.ti.com/general/docs/lit/getliterature.tsp?genericPartNumber=MSP430F2232&fileType=pdf; ComponentLink3Description: Package Specification; ComponentLink3URL: http://www.ti.com/lit/ml/mtss002e/mtss002e.pdf
footprint TI-DA38_N (SOP, 38-Leads, Body 12.5x6.1mm, Pitch 0.65mm, IPC Medium Density)
pins: 1 TEST/SBWTCK (in), 2 DVCC (power) "Digital supply voltage", 3 P2.5/ROSC (io), 4 DVSS (power) "Digital ground reference", 5 P2.7/XOUT (io), 6 P2.6/XIN (io), 7 ~{RST}/NMI/SBWTDIO (io), 8 P2.0/ACLK/A0 (io), 9 P2.1/TAINCLK/SMCLK/A1 (io), 10 P2.2/TA0/A2 (io), 11 P3.0/UCB0STE/UCA0CLK/A5 (io), 12 P3.1/UCB0SIMO/UCB0SDA (io), 13 P3.2/UCB0SOMI/UCB0SCL (io), 14 P3.3/UCB0CLK/UCA0STE (io), 15 AVSS (power) "Analog ground reference", 16 AVCC (power) "Analog supply voltage", 17 P4.0/TB0 (io), 18 P4.1/TB1 (io), 19 P4.2/TB2 (io), 20 P4.3/TB0/A12 (io), 21 P4.4/TB1/A13 (io), 22 P4.5/TB2/A14 (io), 23 P4.6/TBOUTH/A15 (io), 24 P4.7/TBCLK (io), 25 P3.4/UCA0TXD/UCA0SIMO (io), 26 P3.5/UCA0RXD/UCA0SOMI (io), 27 P3.6/A6 (io), 28 P3.7/A7 (io), 29 P2.3/TA1/A3/VREF-/VEREF- (io), 30 P2.4/TA2/A4/VREF+/VEREF+ (io), 31 P1.0/TACLK/ADC10CLK (io), 32 P1.1/TA0 (io), 33 P1.2/TA1 (io), 34 P1.3/TA2 (io), 35 P1.4/SMCLK/TCK (io), 36 P1.5/TA0/TMS (io), 37 P1.6/TA1/TDI/TCLK (io), 38 P1.7/TA2/TDO/TDI (io)

## MSP430F2232TDAQ1
designator U?
16 MHz Mixed Signal Microcontroller with 8 KB Flash, 512 B SRAM and 32 GPIOs, -40 to 105 degC, 38-pin SOP (DA), Green (RoHS & no Sb/Br); Manufacturer: Texas Instruments; PartNumber: MSP430F2232TDAQ1; ADC: 10-bit SAR; ADC Channels: 12; Brown Out Reset: Yes; Eco-Plan: TBD; Flash(KB): 8; Frequency(MHz): 16; GPIO: 32; SRAM(B): 512; SubFamily: Automotive, Extended Temp; Timers - 16-bit: 2; USCI_A (UART/LIN/IrDA/SPI): 1; DatasheetVersion: SLAS770; PackageVersion: 4040066/F; PackageReference: DA38; PackageDescription: 38-Pin Plastic Small-Outline Package, Body 6.10 x 12.50 mm, Pitch 0.65 mm; Supplier 1: Digi-Key; Supplier Part Number 1: 296-29605-5-ND; Supplier 2: Farnell; Supplier Part Number 2: 1753288; Supplier 3: Newark; Supplier Part Number 3: 93R5546; Supplier 4: Newark; Supplier Part Number 4: 28M6316; Supplier 5: Mouser; Supplier Part Number 5: 595-MSP430F2232TDA; Temp Sensor: Yes; USCI_B (I2C & SPI): 1; Watchdog: Yes; Mounting Technology: Surface Mount; Code_JEDEC: MO-153; ComponentLink1Description: Manufacturer URL; ComponentLink1URL: http://www.ti.com/; ComponentLink2Description: Datasheet; ComponentLink2URL: http://www.ti.com/general/docs/lit/getliterature.tsp?genericPartNumber=MSP430F2232-Q1&fileType=pdf; ComponentLink3Description: Package Specification; ComponentLink3URL: http://www.ti.com/lit/ml/mtss002e/mtss002e.pdf
footprint TI-DA38_N (SOP, 38-Leads, Body 12.5x6.1mm, Pitch 0.65mm, IPC Medium Density)
pins: 1 TEST/SBWTCK (in), 2 DVCC (power) "Digital supply voltage", 3 P2.5/ROSC (io), 4 DVSS (power) "Digital ground reference", 5 P2.7/XOUT (io), 6 P2.6/XIN (io), 7 ~{RST}/NMI/SBWTDIO (io), 8 P2.0/ACLK/A0 (io), 9 P2.1/TAINCLK/SMCLK/A1 (io), 10 P2.2/TA0/A2 (io), 11 P3.0/UCB0STE/UCA0CLK/A5 (io), 12 P3.1/UCB0SIMO/UCB0SDA (io), 13 P3.2/UCB0SOMI/UCB0SCL (io), 14 P3.3/UCB0CLK/UCA0STE (io), 15 AVSS (power) "Analog supply voltage", 16 AVCC (power) "Analog supply voltage", 17 P4.0/TB0 (io), 18 P4.1/TB1 (io), 19 P4.2/TB2 (io), 20 P4.3/TB0/A12 (io), 21 P4.4/TB1/A13 (io), 22 P4.5/TB2/A14 (io), 23 P4.6/TBOUTH/A15 (io), 24 P4.7/TBCLK (io), 25 P3.4/UCA0TXD/UCA0SIMO (io), 26 P3.5/UCA0RXD/UCA0SOMI (io), 27 P3.6/A6/OA0I2 (io), 28 P3.7/A7/OA1I2 (io), 29 P2.3/TA1/A3/VREF-/VEREF- (io), 30 P2.4/TA2/A4/VREF+/VEREF+ (io), 31 P1.0/TACLK/ADC10CLK (io), 32 P1.1/TA0 (io), 33 P1.2/TA1 (io), 34 P1.3/TA2 (io), 35 P1.4/SMCLK/TCK (io), 36 P1.5/TA0/TMS (io), 37 P1.6/TA1/TDI (io), 38 P1.7/TA2/TDO/TDI (io)

## MSP430F2232TDAR
designator U?
16 MHz Mixed Signal Microcontroller with 8 KB Flash, 512 B SRAM and 32 GPIOs, -40 to 105 degC, 38-pin SOP (DA), Green (RoHS & no Sb/Br); Manufacturer: Texas Instruments; PartNumber: MSP430F2232TDAR; ADC: 10-bit SAR; ADC Channels: 12; Brown Out Reset: Yes; Flash(KB): 8; Frequency(MHz): 16; GPIO: 32; SRAM(B): 512; SubFamily: 2 Series, Extended Temp; Timers - 16-bit: 2; USCI_A (UART/LIN/IrDA/SPI): 1; DatasheetVersion: SLAS504G; PackageVersion: 4040066/F; PackageReference: DA38; PackageDescription: 38-Pin Plastic Small-Outline Package, Body 6.10 x 12.50 mm, Pitch 0.65 mm; Supplier 1: Mouser; Supplier Part Number 1: N/A; Eco-Plan: Green (RoHS & no Sb/Br); USCI_B (I2C & SPI): 1; Watchdog: Yes; Mounting Technology: Surface Mount; Code_JEDEC: MO-153; ComponentLink1Description: Manufacturer URL; ComponentLink1URL: http://www.ti.com/; ComponentLink2Description: Datasheet; ComponentLink2URL: http://www.ti.com/general/docs/lit/getliterature.tsp?genericPartNumber=MSP430F2232&fileType=pdf; ComponentLink3Description: Package Specification; ComponentLink3URL: http://www.ti.com/lit/ml/mtss002e/mtss002e.pdf
footprint TI-DA38_N (SOP, 38-Leads, Body 12.5x6.1mm, Pitch 0.65mm, IPC Medium Density)
pins: 1 TEST/SBWTCK (in), 2 DVCC (power) "Digital supply voltage", 3 P2.5/ROSC (io), 4 DVSS (power) "Digital ground reference", 5 P2.7/XOUT (io), 6 P2.6/XIN (io), 7 ~{RST}/NMI/SBWTDIO (io), 8 P2.0/ACLK/A0 (io), 9 P2.1/TAINCLK/SMCLK/A1 (io), 10 P2.2/TA0/A2 (io), 11 P3.0/UCB0STE/UCA0CLK/A5 (io), 12 P3.1/UCB0SIMO/UCB0SDA (io), 13 P3.2/UCB0SOMI/UCB0SCL (io), 14 P3.3/UCB0CLK/UCA0STE (io), 15 AVSS (power) "Analog ground reference", 16 AVCC (power) "Analog supply voltage", 17 P4.0/TB0 (io), 18 P4.1/TB1 (io), 19 P4.2/TB2 (io), 20 P4.3/TB0/A12 (io), 21 P4.4/TB1/A13 (io), 22 P4.5/TB2/A14 (io), 23 P4.6/TBOUTH/A15 (io), 24 P4.7/TBCLK (io), 25 P3.4/UCA0TXD/UCA0SIMO (io), 26 P3.5/UCA0RXD/UCA0SOMI (io), 27 P3.6/A6 (io), 28 P3.7/A7 (io), 29 P2.3/TA1/A3/VREF-/VEREF- (io), 30 P2.4/TA2/A4/VREF+/VEREF+ (io), 31 P1.0/TACLK/ADC10CLK (io), 32 P1.1/TA0 (io), 33 P1.2/TA1 (io), 34 P1.3/TA2 (io), 35 P1.4/SMCLK/TCK (io), 36 P1.5/TA0/TMS (io), 37 P1.6/TA1/TDI/TCLK (io), 38 P1.7/TA2/TDO/TDI (io)

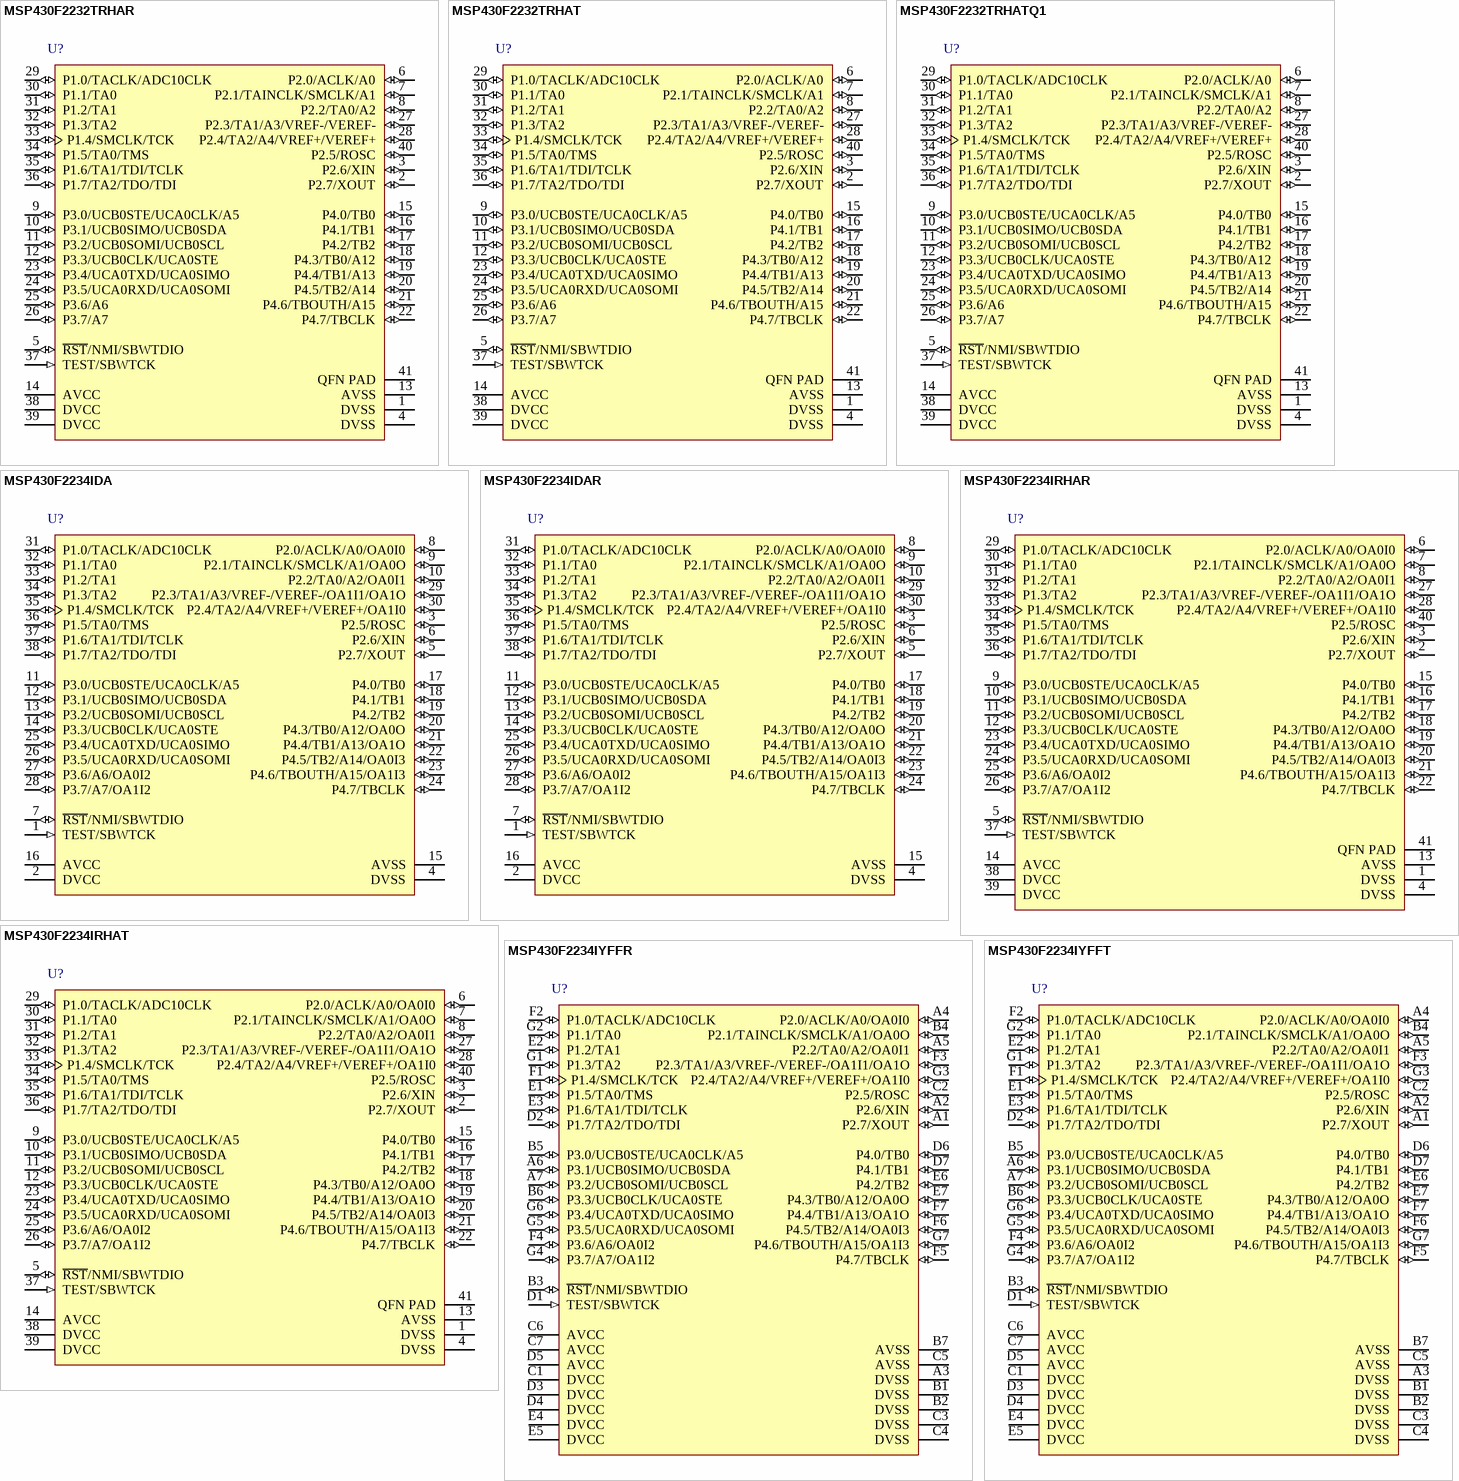
[diagram p60: symbols MSP430F2232TRHAR to MSP430F2234IYFFT]

## MSP430F2232TRHAR
designator U?
16 MHz Mixed Signal Microcontroller with 8 KB Flash, 512 B SRAM and 32 GPIOs, -40 to 105 degC, 40-pin QFN (RHA), Green (RoHS & no Sb/Br); Manufacturer: Texas Instruments; PartNumber: MSP430F2232TRHAR; ADC: 10-bit SAR; ADC Channels: 12; Brown Out Reset: Yes; Flash(KB): 8; Frequency(MHz): 16; GPIO: 32; SRAM(B): 512; SubFamily: 2 Series, Extended Temp; Timers - 16-bit: 2; USCI_A (UART/LIN/IrDA/SPI): 1; DatasheetVersion: SLAS504G; PackageVersion: 4204276/E; PackageReference: RHA40-4150X4150TP; PackageDescription: 40-Pin Plastic Flat Pack, Body 6 x 6 mm, Pitch 0.5 mm; Supplier 1: Digi-Key; Supplier Part Number 1: MSP430F2232TDAR-ND; Supplier 2: Mouser; Supplier Part Number 2: 595-MSP430F2232TDAR; Eco-Plan: Green (RoHS & no Sb/Br); USCI_B (I2C & SPI): 1; Watchdog: Yes; Mounting Technology: Surface Mount; Code_JEDEC: MO-220; ComponentLink1Description: Manufacturer URL; ComponentLink1URL: http://www.ti.com/; ComponentLink2Description: Datasheet; ComponentLink2URL: http://www.ti.com/general/docs/lit/getliterature.tsp?genericPartNumber=MSP430F2232&fileType=pdf; ComponentLink3Description: Package Specification; ComponentLink3URL: http://www.ti.com/litv/pdf/mpqf135c
footprint TI-RHA40-4150X4150TP_N (QFN, 40-Leads, Body 6x6mm, Pitch 0.5mm, Thermal Pad 4.15x4.15mm, IPC Medium Density)
pins: 1 DVSS (power) "Digital ground reference", 2 P2.7/XOUT (io), 3 P2.6/XIN (io), 4 DVSS (power) "Digital ground reference", 5 ~{RST}/NMI/SBWTDIO (io), 6 P2.0/ACLK/A0 (io), 7 P2.1/TAINCLK/SMCLK/A1 (io), 8 P2.2/TA0/A2 (io), 9 P3.0/UCB0STE/UCA0CLK/A5 (io), 10 P3.1/UCB0SIMO/UCB0SDA (io), 11 P3.2/UCB0SOMI/UCB0SCL (io), 12 P3.3/UCB0CLK/UCA0STE (io), 13 AVSS (power) "Analog ground reference", 14 AVCC (power) "Analog supply voltage", 15 P4.0/TB0 (io), 16 P4.1/TB1 (io), 17 P4.2/TB2 (io), 18 P4.3/TB0/A12 (io), 19 P4.4/TB1/A13 (io), 20 P4.5/TB2/A14 (io), 21 P4.6/TBOUTH/A15 (io), 22 P4.7/TBCLK (io), 23 P3.4/UCA0TXD/UCA0SIMO (io), 24 P3.5/UCA0RXD/UCA0SOMI (io), 25 P3.6/A6 (io), 26 P3.7/A7 (io), 27 P2.3/TA1/A3/VREF-/VEREF- (io), 28 P2.4/TA2/A4/VREF+/VEREF+ (io), 29 P1.0/TACLK/ADC10CLK (io), 30 P1.1/TA0 (io), 31 P1.2/TA1 (io), 32 P1.3/TA2 (io), 33 P1.4/SMCLK/TCK (io), 34 P1.5/TA0/TMS (io), 35 P1.6/TA1/TDI/TCLK (io), 36 P1.7/TA2/TDO/TDI (io), 37 TEST/SBWTCK (in), 38 DVCC (power) "Digital supply voltage", 39 DVCC (power) "Digital supply voltage", 40 P2.5/ROSC (io), 41 QFN PAD (power) "QFN package pad; connection to DVSS recommended"

## MSP430F2232TRHAT
designator U?
16 MHz Mixed Signal Microcontroller with 8 KB Flash, 512 B SRAM and 32 GPIOs, -40 to 105 degC, 40-pin QFN (RHA), Green (RoHS & no Sb/Br); Manufacturer: Texas Instruments; PartNumber: MSP430F2232TRHAT; ADC: 10-bit SAR; ADC Channels: 12; Brown Out Reset: Yes; Flash(KB): 8; Frequency(MHz): 16; GPIO: 32; SRAM(B): 512; SubFamily: 2 Series, Extended Temp; Timers - 16-bit: 2; USCI_A (UART/LIN/IrDA/SPI): 1; DatasheetVersion: SLAS504G; PackageVersion: 4204276/E; PackageReference: RHA40-4150X4150TP; PackageDescription: 40-Pin Plastic Flat Pack, Body 6 x 6 mm, Pitch 0.5 mm; Supplier 1: Digi-Key; Supplier Part Number 1: MSP430F2232TRHAR-ND; Supplier 2: Mouser; Supplier Part Number 2: 595-MSP430F2232TRHAR; Eco-Plan: Green (RoHS & no Sb/Br); USCI_B (I2C & SPI): 1; Watchdog: Yes; Mounting Technology: Surface Mount; Code_JEDEC: MO-220; ComponentLink1Description: Manufacturer URL; ComponentLink1URL: http://www.ti.com/; ComponentLink2Description: Datasheet; ComponentLink2URL: http://www.ti.com/general/docs/lit/getliterature.tsp?genericPartNumber=MSP430F2232&fileType=pdf; ComponentLink3Description: Package Specification; ComponentLink3URL: http://www.ti.com/litv/pdf/mpqf135c
footprint TI-RHA40-4150X4150TP_N (QFN, 40-Leads, Body 6x6mm, Pitch 0.5mm, Thermal Pad 4.15x4.15mm, IPC Medium Density)
pins: 1 DVSS (power) "Digital ground reference", 2 P2.7/XOUT (io), 3 P2.6/XIN (io), 4 DVSS (power) "Digital ground reference", 5 ~{RST}/NMI/SBWTDIO (io), 6 P2.0/ACLK/A0 (io), 7 P2.1/TAINCLK/SMCLK/A1 (io), 8 P2.2/TA0/A2 (io), 9 P3.0/UCB0STE/UCA0CLK/A5 (io), 10 P3.1/UCB0SIMO/UCB0SDA (io), 11 P3.2/UCB0SOMI/UCB0SCL (io), 12 P3.3/UCB0CLK/UCA0STE (io), 13 AVSS (power) "Analog ground reference", 14 AVCC (power) "Analog supply voltage", 15 P4.0/TB0 (io), 16 P4.1/TB1 (io), 17 P4.2/TB2 (io), 18 P4.3/TB0/A12 (io), 19 P4.4/TB1/A13 (io), 20 P4.5/TB2/A14 (io), 21 P4.6/TBOUTH/A15 (io), 22 P4.7/TBCLK (io), 23 P3.4/UCA0TXD/UCA0SIMO (io), 24 P3.5/UCA0RXD/UCA0SOMI (io), 25 P3.6/A6 (io), 26 P3.7/A7 (io), 27 P2.3/TA1/A3/VREF-/VEREF- (io), 28 P2.4/TA2/A4/VREF+/VEREF+ (io), 29 P1.0/TACLK/ADC10CLK (io), 30 P1.1/TA0 (io), 31 P1.2/TA1 (io), 32 P1.3/TA2 (io), 33 P1.4/SMCLK/TCK (io), 34 P1.5/TA0/TMS (io), 35 P1.6/TA1/TDI/TCLK (io), 36 P1.7/TA2/TDO/TDI (io), 37 TEST/SBWTCK (in), 38 DVCC (power) "Digital supply voltage", 39 DVCC (power) "Digital supply voltage", 40 P2.5/ROSC (io), 41 QFN PAD (power) "QFN package pad; connection to DVSS recommended"

## MSP430F2232TRHATQ1
designator U?
16 MHz Mixed Signal Microcontroller with 8 KB Flash, 512 B SRAM and 32 GPIOs, -40 to 105 degC, 40-pin QFN (RHA); Manufacturer: Texas Instruments; PartNumber: MSP430F2232TRHATQ1; ADC: 10-bit SAR; ADC Channels: 12; Brown Out Reset: Yes; Eco-Plan: TBD; Flash(KB): 8; Frequency(MHz): 16; GPIO: 32; SRAM(B): 512; SubFamily: Automotive, Extended Temp; Timers - 16-bit: 2; USCI_A (UART/LIN/IrDA/SPI): 1; DatasheetVersion: SLAS770; PackageReference: RHA40-2900X2900TP; PackageDescription: 40-Pin Plastic Flat Pack, Body 6 x 6 mm, Pitch 0.5 mm; Supplier 1: Digi-Key; Supplier Part Number 1: MSP430F2232TRHAT-ND; Supplier 2: Farnell; Supplier Part Number 2: 1753291; Supplier 3: Newark; Supplier Part Number 3: 93R5547; Supplier 4: Newark; Supplier Part Number 4: 28M6319; Supplier 5: Mouser; Supplier Part Number 5: 595-MSP430F2232TRHAT; Temp Sensor: Yes; USCI_B (I2C & SPI): 1; Watchdog: Yes; Mounting Technology: Surface Mount; Code_JEDEC: MO-153; ComponentLink1Description: Manufacturer URL; ComponentLink1URL: http://www.ti.com/; ComponentLink2Description: Datasheet; ComponentLink2URL: http://www.ti.com/general/docs/lit/getliterature.tsp?genericPartNumber=MSP430F2232-Q1&fileType=pdf; ComponentLink3Description: Package Specification; ComponentLink3URL: http://www.ti.com/litv/pdf/mtss003d
footprint TI-RHA40-2900X2900TP_N (QFN, 40-Leads, Body 6x6mm, Pitch 0.5mm, Thermal Pad 2.9x2.9mm, IPC Medium Density)
pins: 1 DVSS (power) "Digital ground reference", 2 P2.7/XOUT (io), 3 P2.6/XIN (io), 4 DVSS (power) "Digital ground reference", 5 ~{RST}/NMI/SBWTDIO (io), 6 P2.0/ACLK/A0 (io), 7 P2.1/TAINCLK/SMCLK/A1 (io), 8 P2.2/TA0/A2 (io), 9 P3.0/UCB0STE/UCA0CLK/A5 (io), 10 P3.1/UCB0SIMO/UCB0SDA (io), 11 P3.2/UCB0SOMI/UCB0SCL (io), 12 P3.3/UCB0CLK/UCA0STE (io), 13 AVSS (power) "Analog ground reference", 14 AVCC (power) "Analog supply voltage", 15 P4.0/TB0 (io), 16 P4.1/TB1 (io), 17 P4.2/TB2 (io), 18 P4.3/TB0/A12 (io), 19 P4.4/TB1/A13 (io), 20 P4.5/TB2/A14 (io), 21 P4.6/TBOUTH/A15 (io), 22 P4.7/TBCLK (io), 23 P3.4/UCA0TXD/UCA0SIMO (io), 24 P3.5/UCA0RXD/UCA0SOMI (io), 25 P3.6/A6 (io), 26 P3.7/A7 (io), 27 P2.3/TA1/A3/VREF-/VEREF- (io), 28 P2.4/TA2/A4/VREF+/VEREF+ (io), 29 P1.0/TACLK/ADC10CLK (io), 30 P1.1/TA0 (io), 31 P1.2/TA1 (io), 32 P1.3/TA2 (io), 33 P1.4/SMCLK/TCK (io), 34 P1.5/TA0/TMS (io), 35 P1.6/TA1/TDI/TCLK (io), 36 P1.7/TA2/TDO/TDI (io), 37 TEST/SBWTCK (in), 38 DVCC (power) "Digital supply voltage", 39 DVCC (power) "Digital supply voltage", 40 P2.5/ROSC (io), 41 QFN PAD (power) "QFN package pad; connection to DVSS recommended"

## MSP430F2234IDA
designator U?
16 MHz Mixed Signal Microcontroller with 8 KB Flash, 512 B SRAM and 32 GPIOs, -40 to 85 degC, 38-pin SOP (DA), Green (RoHS & no Sb/Br); Manufacturer: Texas Instruments; PartNumber: MSP430F2234IDA; ADC: 10-bit SAR; ADC Channels: 12; Brown Out Reset: Yes; Flash(KB): 8; Frequency(MHz): 16; GPIO: 32; SRAM(B): 512; SubFamily: 2 Series, Extended Temp; Timers - 16-bit: 2; USCI_A (UART/LIN/IrDA/SPI): 1; DatasheetVersion: SLAS504G; PackageVersion: 4040066/F; PackageReference: DA38; PackageDescription: 38-Pin Plastic Small-Outline Package, Body 6.10 x 12.50 mm, Pitch 0.65 mm; Supplier 1: Mouser; Supplier Part Number 1: N/A; Eco-Plan: Green (RoHS & no Sb/Br); USCI_B (I2C & SPI): 1; Watchdog: Yes; Mounting Technology: Surface Mount; Code_JEDEC: MO-153; ComponentLink1Description: Manufacturer URL; ComponentLink1URL: http://www.ti.com/; ComponentLink2Description: Datasheet; ComponentLink2URL: http://www.ti.com/general/docs/lit/getliterature.tsp?genericPartNumber=MSP430F2234&fileType=pdf; ComponentLink3Description: Package Specification; ComponentLink3URL: http://www.ti.com/lit/ml/mtss002e/mtss002e.pdf
footprint TI-DA38_N (SOP, 38-Leads, Body 12.5x6.1mm, Pitch 0.65mm, IPC Medium Density)
pins: 1 TEST/SBWTCK (in), 2 DVCC (power) "Digital supply voltage", 3 P2.5/ROSC (io), 4 DVSS (power) "Digital ground reference", 5 P2.7/XOUT (io), 6 P2.6/XIN (io), 7 ~{RST}/NMI/SBWTDIO (io), 8 P2.0/ACLK/A0/OA0I0 (io), 9 P2.1/TAINCLK/SMCLK/A1/OA0O (io), 10 P2.2/TA0/A2/OA0I1 (io), 11 P3.0/UCB0STE/UCA0CLK/A5 (io), 12 P3.1/UCB0SIMO/UCB0SDA (io), 13 P3.2/UCB0SOMI/UCB0SCL (io), 14 P3.3/UCB0CLK/UCA0STE (io), 15 AVSS (power) "Analog ground reference", 16 AVCC (power) "Analog supply voltage", 17 P4.0/TB0 (io), 18 P4.1/TB1 (io), 19 P4.2/TB2 (io), 20 P4.3/TB0/A12/OA0O (io), 21 P4.4/TB1/A13/OA1O (io), 22 P4.5/TB2/A14/OA0I3 (io), 23 P4.6/TBOUTH/A15/OA1I3 (io), 24 P4.7/TBCLK (io), 25 P3.4/UCA0TXD/UCA0SIMO (io), 26 P3.5/UCA0RXD/UCA0SOMI (io), 27 P3.6/A6/OA0I2 (io), 28 P3.7/A7/OA1I2 (io), 29 P2.3/TA1/A3/VREF-/VEREF-/OA1I1/OA1O (io), 30 P2.4/TA2/A4/VREF+/VEREF+/OA1I0 (io), 31 P1.0/TACLK/ADC10CLK (io), 32 P1.1/TA0 (io), 33 P1.2/TA1 (io), 34 P1.3/TA2 (io), 35 P1.4/SMCLK/TCK (io), 36 P1.5/TA0/TMS (io), 37 P1.6/TA1/TDI/TCLK (io), 38 P1.7/TA2/TDO/TDI (io)

## MSP430F2234IDAR
designator U?
16 MHz Mixed Signal Microcontroller with 8 KB Flash, 512 B SRAM and 32 GPIOs, -40 to 85 degC, 38-pin SOP (DA), Green (RoHS & no Sb/Br); Manufacturer: Texas Instruments; PartNumber: MSP430F2234IDAR; ADC: 10-bit SAR; ADC Channels: 12; Brown Out Reset: Yes; Flash(KB): 8; Frequency(MHz): 16; GPIO: 32; SRAM(B): 512; SubFamily: 2 Series, Extended Temp; Timers - 16-bit: 2; USCI_A (UART/LIN/IrDA/SPI): 1; DatasheetVersion: SLAS504G; PackageVersion: 4040066/F; PackageReference: DA38; PackageDescription: 38-Pin Plastic Small-Outline Package, Body 6.10 x 12.50 mm, Pitch 0.65 mm; Supplier 1: Digi-Key; Supplier Part Number 1: 296-33427-5-ND; Supplier 2: Farnell; Supplier Part Number 2: 1649419; Supplier 3: Newark; Supplier Part Number 3: 28M6320; Supplier 4: Mouser; Supplier Part Number 4: 595-MSP430F2234IDA; Eco-Plan: Green (RoHS & no Sb/Br); USCI_B (I2C & SPI): 1; Watchdog: Yes; Mounting Technology: Surface Mount; Code_JEDEC: MO-153; ComponentLink1Description: Manufacturer URL; ComponentLink1URL: http://www.ti.com/; ComponentLink2Description: Datasheet; ComponentLink2URL: http://www.ti.com/general/docs/lit/getliterature.tsp?genericPartNumber=MSP430F2234&fileType=pdf; ComponentLink3Description: Package Specification; ComponentLink3URL: http://www.ti.com/lit/ml/mtss002e/mtss002e.pdf
footprint TI-DA38_N (SOP, 38-Leads, Body 12.5x6.1mm, Pitch 0.65mm, IPC Medium Density)
pins: 1 TEST/SBWTCK (in), 2 DVCC (power) "Digital supply voltage", 3 P2.5/ROSC (io), 4 DVSS (power) "Digital ground reference", 5 P2.7/XOUT (io), 6 P2.6/XIN (io), 7 ~{RST}/NMI/SBWTDIO (io), 8 P2.0/ACLK/A0/OA0I0 (io), 9 P2.1/TAINCLK/SMCLK/A1/OA0O (io), 10 P2.2/TA0/A2/OA0I1 (io), 11 P3.0/UCB0STE/UCA0CLK/A5 (io), 12 P3.1/UCB0SIMO/UCB0SDA (io), 13 P3.2/UCB0SOMI/UCB0SCL (io), 14 P3.3/UCB0CLK/UCA0STE (io), 15 AVSS (power) "Analog ground reference", 16 AVCC (power) "Analog supply voltage", 17 P4.0/TB0 (io), 18 P4.1/TB1 (io), 19 P4.2/TB2 (io), 20 P4.3/TB0/A12/OA0O (io), 21 P4.4/TB1/A13/OA1O (io), 22 P4.5/TB2/A14/OA0I3 (io), 23 P4.6/TBOUTH/A15/OA1I3 (io), 24 P4.7/TBCLK (io), 25 P3.4/UCA0TXD/UCA0SIMO (io), 26 P3.5/UCA0RXD/UCA0SOMI (io), 27 P3.6/A6/OA0I2 (io), 28 P3.7/A7/OA1I2 (io), 29 P2.3/TA1/A3/VREF-/VEREF-/OA1I1/OA1O (io), 30 P2.4/TA2/A4/VREF+/VEREF+/OA1I0 (io), 31 P1.0/TACLK/ADC10CLK (io), 32 P1.1/TA0 (io), 33 P1.2/TA1 (io), 34 P1.3/TA2 (io), 35 P1.4/SMCLK/TCK (io), 36 P1.5/TA0/TMS (io), 37 P1.6/TA1/TDI/TCLK (io), 38 P1.7/TA2/TDO/TDI (io)

## MSP430F2234IRHAR
designator U?
16 MHz Mixed Signal Microcontroller with 8 KB Flash, 512 B SRAM and 32 GPIOs, -40 to 85 degC, 40-pin QFN (RHA), Green (RoHS & no Sb/Br); Manufacturer: Texas Instruments; PartNumber: MSP430F2234IRHAR; ADC: 10-bit SAR; ADC Channels: 12; Brown Out Reset: Yes; Flash(KB): 8; Frequency(MHz): 16; GPIO: 32; SRAM(B): 512; SubFamily: 2 Series, Extended Temp; Timers - 16-bit: 2; USCI_A (UART/LIN/IrDA/SPI): 1; DatasheetVersion: SLAS504G; PackageVersion: 4204276/E; PackageReference: RHA40-4150X4150TP; PackageDescription: 40-Pin Plastic Flat Pack, Body 6 x 6 mm, Pitch 0.5 mm; Supplier 1: Digi-Key; Supplier Part Number 1: 296-21446-2-ND; Supplier 2: Digi-Key; Supplier Part Number 2: 296-21446-1-ND; Supplier 3: Digi-Key; Supplier Part Number 3: 296-21446-6-ND; Supplier 4: Newark; Supplier Part Number 4: 28M6321; Supplier 5: Mouser; Supplier Part Number 5: 595-MSP430F2234IDAR; Eco-Plan: Green (RoHS & no Sb/Br); USCI_B (I2C & SPI): 1; Watchdog: Yes; Mounting Technology: Surface Mount; Code_JEDEC: MO-220; ComponentLink1Description: Manufacturer URL; ComponentLink1URL: http://www.ti.com/; ComponentLink2Description: Datasheet; ComponentLink2URL: http://www.ti.com/general/docs/lit/getliterature.tsp?genericPartNumber=MSP430F2234&fileType=pdf; ComponentLink3Description: Package Specification; ComponentLink3URL: http://www.ti.com/litv/pdf/mpqf135c
footprint TI-RHA40-4150X4150TP_N (QFN, 40-Leads, Body 6x6mm, Pitch 0.5mm, Thermal Pad 4.15x4.15mm, IPC Medium Density)
pins: 1 DVSS (power) "Digital ground reference", 2 P2.7/XOUT (io), 3 P2.6/XIN (io), 4 DVSS (power) "Digital ground reference", 5 ~{RST}/NMI/SBWTDIO (io), 6 P2.0/ACLK/A0/OA0I0 (io), 7 P2.1/TAINCLK/SMCLK/A1/OA0O (io), 8 P2.2/TA0/A2/OA0I1 (io), 9 P3.0/UCB0STE/UCA0CLK/A5 (io), 10 P3.1/UCB0SIMO/UCB0SDA (io), 11 P3.2/UCB0SOMI/UCB0SCL (io), 12 P3.3/UCB0CLK/UCA0STE (io), 13 AVSS (power) "Analog ground reference", 14 AVCC (power) "Analog supply voltage", 15 P4.0/TB0 (io), 16 P4.1/TB1 (io), 17 P4.2/TB2 (io), 18 P4.3/TB0/A12/OA0O (io), 19 P4.4/TB1/A13/OA1O (io), 20 P4.5/TB2/A14/OA0I3 (io), 21 P4.6/TBOUTH/A15/OA1I3 (io), 22 P4.7/TBCLK (io), 23 P3.4/UCA0TXD/UCA0SIMO (io), 24 P3.5/UCA0RXD/UCA0SOMI (io), 25 P3.6/A6/OA0I2 (io), 26 P3.7/A7/OA1I2 (io), 27 P2.3/TA1/A3/VREF-/VEREF-/OA1I1/OA1O (io), 28 P2.4/TA2/A4/VREF+/VEREF+/OA1I0 (io), 29 P1.0/TACLK/ADC10CLK (io), 30 P1.1/TA0 (io), 31 P1.2/TA1 (io), 32 P1.3/TA2 (io), 33 P1.4/SMCLK/TCK (io), 34 P1.5/TA0/TMS (io), 35 P1.6/TA1/TDI/TCLK (io), 36 P1.7/TA2/TDO/TDI (io), 37 TEST/SBWTCK (in), 38 DVCC (power) "Digital supply voltage", 39 DVCC (power) "Digital supply voltage", 40 P2.5/ROSC (io), 41 QFN PAD (power) "QFN package pad; connection to DVSS recommended."